# Altium footprint library flatsat_platform_2.PcbLib: 76 footprints (part 3 of 5)
Each footprint in its own frame and in the unit in brackets; x right, y up, seen from the top. Pads: shape width x height; smd on the part's side, far side on the other; paste and mask are expansions set on the pad; w line width, h text height; cw(c..) or ccw(c..) is an arc to the next point about the centre after c.
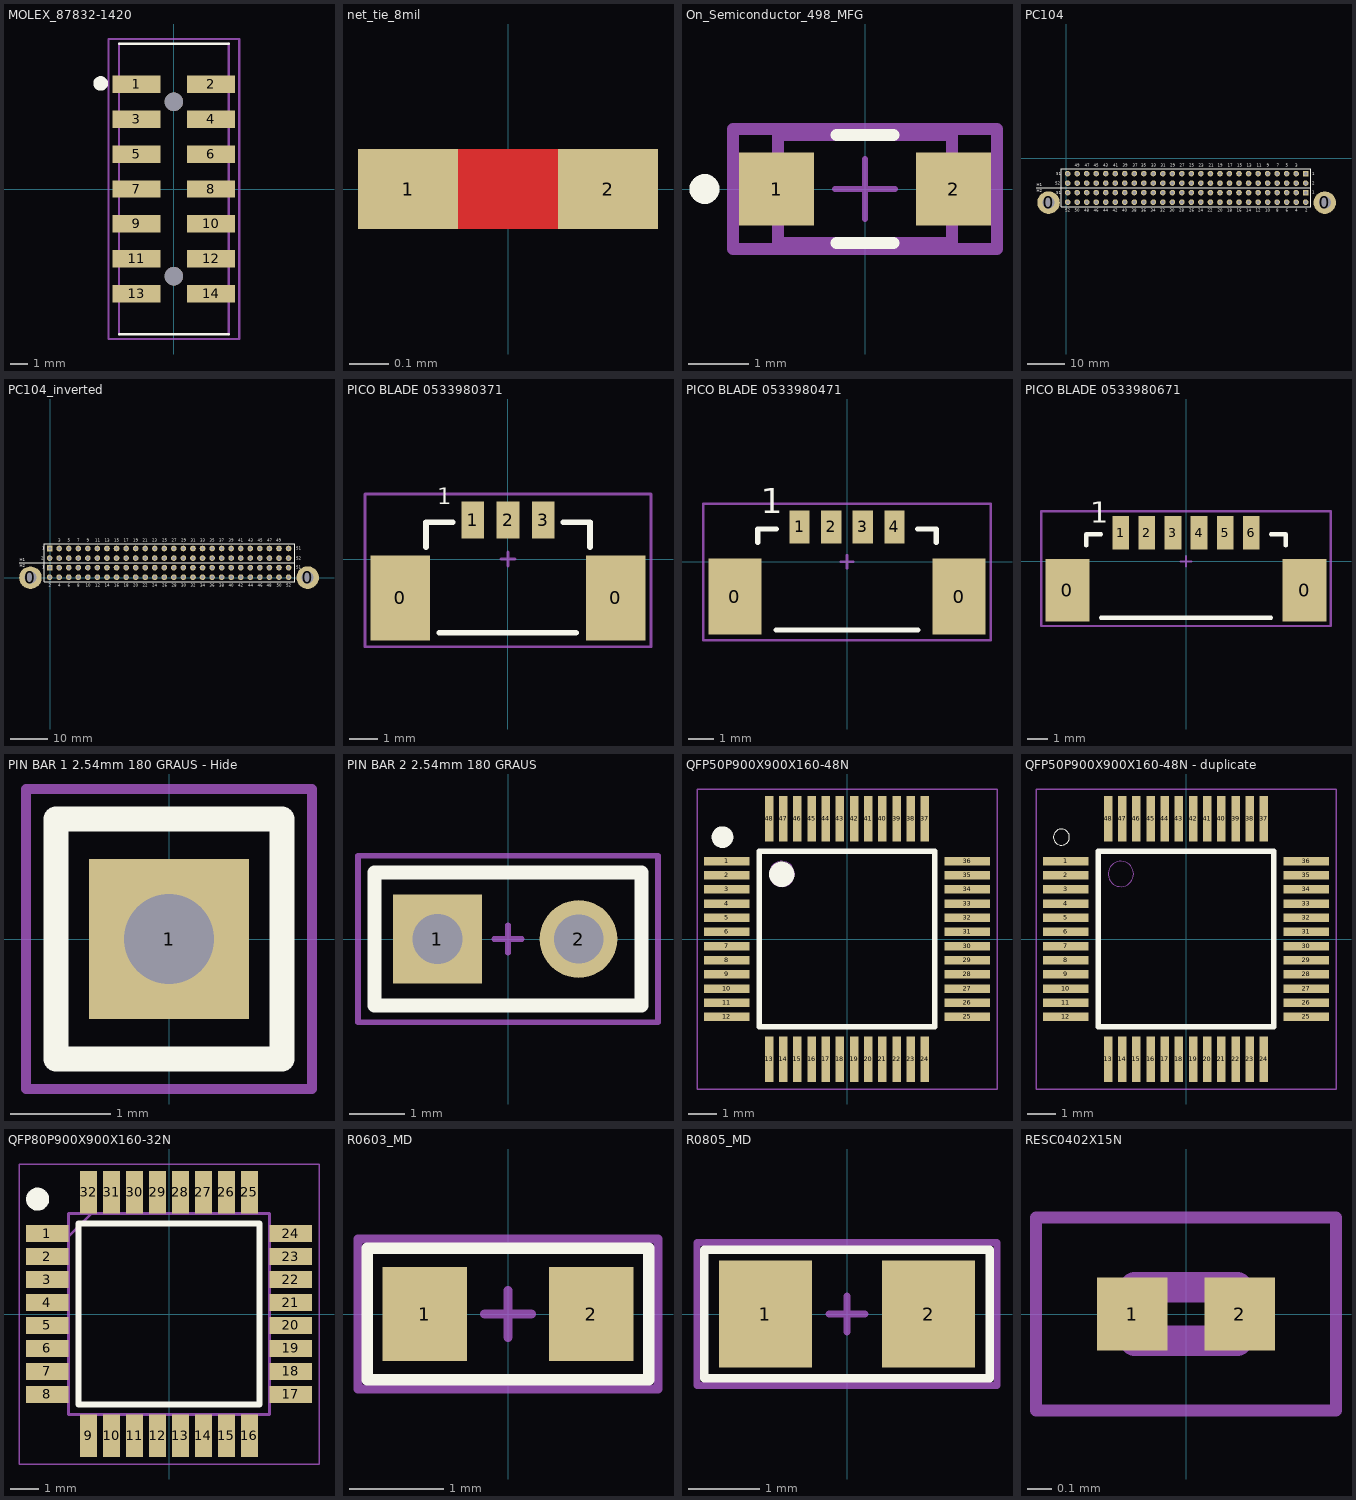
[diagram p2: the footprints below, top view; thin cyan lines are the x and y axes]

## MOLEX_87832-1420 [mm]
pads (16):
  rect 2.75x1 smd: 1(-2.13,6) 2(2.13,6) 3(-2.13,4) 4(2.13,4) 5(-2.13,2) 6(2.13,2) 7(-2.13,0) 8(2.13,0) 9(-2.13,-2) 10(2.13,-2) 11(-2.13,-4) 12(2.13,-4) 13(-2.13,-6) 14(2.13,-6)
  round 1.05 hole 1.05 unplated: ""(0,-5) ""(0,5)
Top Overlay:
  circle w0.61: c-4.2,6.05 r0.11
  lines w0.127: -3.15,-8.325 3.15,-8.325 ; -3.15,8.325 3.15,8.325
Mechanical 13:
  lines w0.127: -3.15,-8.325 -3.15,8.325 ; 3.15,-8.325 3.15,8.325
Mechanical 15:
  lines w0.127: -3.75,-8.6 3.75,-8.6 3.75,8.6 -3.75,8.6 -3.75,-8.6
3D body "87832-1420.stp": height 7.61, standoff -0.99, extent -3.15,-8.268 3.15,8.382

## net_tie_8mil [mil]
pads (2):
  rect 10x8 smd mask-99999: 1(-10,0) 2(10,0)
Top Layer:
  lines w8: -10,0 10,0

## On_Semiconductor_498_MFG [mm]
pads (2):
  rect 1.25x1.22 smd paste+0 mask+0: 1(-1.475,0) 2(1.475,0)
Top Overlay:
  circle w0.25: c-2.675,0 r0.125
  lines w0.2: -0.475,-0.9 0.475,-0.9 ; -0.475,0.9 0.475,0.9
Mechanical 10:
  lines w0.2: -2.2,-1 -2.2,1 2.2,1 2.2,-1 -2.2,-1
  text ".Designator" at 0,-0.001 h1
Mechanical 12:
  lines w0.2: -1.45,-0.9 -1.45,0.9 1.45,0.9 1.45,-0.9 -1.45,-0.9
Mechanical 15:
  lines w0.1: -0.5,0 0.5,0 ; 0,-0.5 0,0.5
  lines w0.2: -2.2,-1 -2.2,1 2.2,1 2.2,-1 -2.2,-1
3D body "Diode_On_Semiconductor_MBR230LSFT1G_eec.STEP": height 0.25, standoff 0, extent -2.2,-1 2.2,1

## PC104 [mm] "Connector; Header; 26x4 Position"
height 3.1
pads (106):
  round 6 hole 3.2: 0(-4.686,-11.809) 0(68.998,-11.823)
  rect 1.5x1.5 hole 0.9: 1(63.906,-4.064) 53(63.906,-9.139)
  round 1.5 hole 0.9: 2(63.906,-6.604) 3(61.366,-4.064) 4(61.366,-6.604) 5(58.826,-4.064) 6(58.826,-6.604) 7(56.286,-4.064) 8(56.286,-6.604) 9(53.746,-4.064) 10(53.746,-6.604) 11(51.206,-4.064) 12(51.206,-6.604) 13(48.666,-4.064) 14(48.666,-6.604) 15(46.126,-4.064) 16(46.126,-6.604) 17(43.561,-4.064) 18(43.586,-6.604) 19(41.046,-4.064) 20(41.046,-6.604) 21(38.506,-4.064) 22(38.506,-6.604) 23(35.966,-4.064) 24(35.966,-6.604) 25(33.426,-4.064) 26(33.426,-6.604) 27(30.886,-4.064) 28(30.886,-6.604) 29(28.346,-4.064) 30(28.346,-6.604) 31(25.806,-4.064) 32(25.806,-6.604) 33(23.266,-4.064) 34(23.266,-6.604) 35(20.726,-4.064) 36(20.726,-6.604) 37(18.186,-4.064) 38(18.186,-6.604) 39(15.646,-4.064) 40(15.646,-6.604) 41(13.106,-4.064) 42(13.106,-6.604) 43(10.566,-4.064) 44(10.566,-6.604) 45(8.026,-4.064) 46(8.026,-6.604) 47(5.486,-4.064) 48(5.486,-6.604) 49(2.946,-4.064) 50(2.946,-6.604) 51(0.406,-4.064) 52(0.406,-6.604) 54(63.906,-11.684) 55(61.366,-9.144) 56(61.366,-11.684) 57(58.826,-9.144) 58(58.826,-11.684) 59(56.286,-9.144) 60(56.286,-11.684) 61(53.746,-9.139) 62(53.746,-11.684) 63(51.206,-9.139) 64(51.206,-11.684) 65(48.666,-9.144) 66(48.666,-11.684) 67(46.126,-9.144) 68(46.126,-11.684) 69(43.561,-9.144) 70(43.586,-11.684) 71(41.046,-9.144) 72(41.046,-11.684) 73(38.506,-9.144) 74(38.506,-11.684) 75(35.966,-9.144) 76(35.966,-11.684) 77(33.426,-9.144) 78(33.426,-11.684) 79(30.886,-9.144) 80(30.886,-11.684) 81(28.346,-9.144) 82(28.346,-11.684) 83(25.806,-9.144) 84(25.806,-11.684) 85(23.266,-9.144) 86(23.266,-11.684) 87(20.726,-9.144) 88(20.726,-11.684) 89(18.186,-9.144) 90(18.186,-11.684) 91(15.646,-9.144) 92(15.646,-11.684) 93(13.106,-9.144) 94(13.106,-11.684) 95(10.566,-9.144) 96(10.566,-11.684) 97(8.026,-9.144) 98(8.026,-11.684) 99(5.486,-9.144) 100(5.486,-11.684) 101(2.946,-9.144) 102(2.946,-11.684) 103(0.406,-9.144) 104(0.406,-11.684)
Top Overlay:
  lines w0.127: -8.034,-7.874 65.151,-7.874
  lines w0.254: -1.27,-12.954 -1.27,-2.794 65.278,-2.794 65.278,-12.954 -1.27,-12.954
  text "H1" at -7.874,-7.493 h0.75
  text "H2" at -7.874,-9.017 h0.75
  text "2" at 65.659,-6.985 h0.75
  text "1" at 65.659,-4.445 h0.75
  text "1" at 65.659,-9.398 h0.75
  text "2" at 63.754,-14.224 h0.75
  text "52" at -0.254,-14.224 h0.75
  text "51" at -2.667,-9.525 h0.75
  text "52" at -2.921,-6.985 h0.75
  text "51" at -2.667,-4.445 h0.75
  text "50" at 2.286,-14.224 h0.75
  text "48" at 4.826,-14.224 h0.75
  text "46" at 7.366,-14.224 h0.75
  text "44" at 9.906,-14.224 h0.75
  text "42" at 12.446,-14.224 h0.75
  text "40" at 14.986,-14.224 h0.75
  text "38" at 17.526,-14.224 h0.75
  text "36" at 20.066,-14.224 h0.75
  text "34" at 22.606,-14.224 h0.75
  text "32" at 25.146,-14.224 h0.75
  text "30" at 27.686,-14.224 h0.75
  text "28" at 30.226,-14.224 h0.75
  text "26" at 32.893,-14.224 h0.75
  text "24" at 35.306,-14.224 h0.75
  text "22" at 37.846,-14.224 h0.75
  text "20" at 40.386,-14.224 h0.75
  text "18" at 42.926,-14.224 h0.75
  text "16" at 45.466,-14.224 h0.75
  text "14" at 48.006,-14.224 h0.75
  text "12" at 50.546,-14.224 h0.75
  text "10" at 53.086,-14.224 h0.75
  text "8" at 56.007,-14.224 h0.75
  text "6" at 58.547,-14.224 h0.75
  text "4" at 61.087,-14.224 h0.75
  text "49" at 2.286,-2.286 h0.75
  text "47" at 4.953,-2.286 h0.75
  text "45" at 7.366,-2.286 h0.75
  text "43" at 9.906,-2.286 h0.75
  text "41" at 12.573,-2.286 h0.75
  text "39" at 15.113,-2.286 h0.75
  text "37" at 17.78,-2.286 h0.75
  text "35" at 20.066,-2.286 h0.75
  text "33" at 22.733,-2.286 h0.75
  text "31" at 25.273,-2.286 h0.75
  text "29" at 27.813,-2.286 h0.75
  text "27" at 30.353,-2.286 h0.75
  text "25" at 32.893,-2.286 h0.75
  text "23" at 35.433,-2.286 h0.75
  text "21" at 38.1,-2.286 h0.75
  text "19" at 40.513,-2.286 h0.75
  text "17" at 43.18,-2.286 h0.75
  text "15" at 45.593,-2.286 h0.75
  text "13" at 48.133,-2.286 h0.75
  text "11" at 50.8,-2.286 h0.75
  text "9" at 53.467,-2.286 h0.75
  text "7" at 56.134,-2.286 h0.75
  text "5" at 58.547,-2.286 h0.75
  text "3" at 61.087,-2.286 h0.75
Mechanical 15:
  text "PC104" at 49.356,-6.934 h1
3D body "SSW-126-01-G-D.stp": height 8.52, standoff -2.63, extent -1.27,-12.827 65.278,-7.874
3D body "SSW-126-01-G-D.stp": height 8.52, standoff -2.63, extent -1.27,-7.874 65.278,-2.921

## PC104_inverted [mm] "Connector; Header; 26x4 Position"
height 3.1
pads (106):
  round 6 hole 3.2: 0(-5.244,-0.012) 0(68.44,0.002)
  rect 1.5x1.5 hole 0.9: 1(-0.152,7.747) 53(-0.152,2.672)
  round 1.5 hole 0.9: 2(-0.152,5.207) 3(2.388,7.747) 4(2.388,5.207) 5(4.928,7.747) 6(4.928,5.207) 7(7.468,7.747) 8(7.468,5.207) 9(10.008,7.747) 10(10.008,5.207) 11(12.548,7.747) 12(12.548,5.207) 13(15.088,7.747) 14(15.088,5.207) 15(17.628,7.747) 16(17.628,5.207) 17(20.193,7.747) 18(20.168,5.207) 19(22.708,7.747) 20(22.708,5.207) 21(25.248,7.747) 22(25.248,5.207) 23(27.788,7.747) 24(27.788,5.207) 25(30.328,7.747) 26(30.328,5.207) 27(32.868,7.747) 28(32.868,5.207) 29(35.408,7.747) 30(35.408,5.207) 31(37.948,7.747) 32(37.948,5.207) 33(40.488,7.747) 34(40.488,5.207) 35(43.028,7.747) 36(43.028,5.207) 37(45.568,7.747) 38(45.568,5.207) 39(48.108,7.747) 40(48.108,5.207) 41(50.648,7.747) 42(50.648,5.207) 43(53.188,7.747) 44(53.188,5.207) 45(55.728,7.747) 46(55.728,5.207) 47(58.268,7.747) 48(58.268,5.207) 49(60.808,7.747) 50(60.808,5.207) 51(63.348,7.747) 52(63.348,5.207) 54(-0.152,0.127) 55(2.388,2.667) 56(2.388,0.127) 57(4.928,2.667) 58(4.928,0.127) 59(7.468,2.667) 60(7.468,0.127) 61(10.008,2.672) 62(10.008,0.127) 63(12.548,2.672) 64(12.548,0.127) 65(15.088,2.667) 66(15.088,0.127) 67(17.628,2.667) 68(17.628,0.127) 69(20.193,2.667) 70(20.168,0.127) 71(22.708,2.667) 72(22.708,0.127) 73(25.248,2.667) 74(25.248,0.127) 75(27.788,2.667) 76(27.788,0.127) 77(30.328,2.667) 78(30.328,0.127) 79(32.868,2.667) 80(32.868,0.127) 81(35.408,2.667) 82(35.408,0.127) 83(37.948,2.667) 84(37.948,0.127) 85(40.488,2.667) 86(40.488,0.127) 87(43.028,2.667) 88(43.028,0.127) 89(45.568,2.667) 90(45.568,0.127) 91(48.108,2.667) 92(48.108,0.127) 93(50.648,2.667) 94(50.648,0.127) 95(53.188,2.667) 96(53.188,0.127) 97(55.728,2.667) 98(55.728,0.127) 99(58.268,2.667) 100(58.268,0.127) 101(60.808,2.667) 102(60.808,0.127) 103(63.348,2.667) 104(63.348,0.127)
Top Overlay:
  lines w0.127: -8.288,3.937 64.897,3.937
  lines w0.254: -1.524,-1.143 65.024,-1.143 65.024,9.017 -1.524,9.017 -1.524,-1.143
  text "H2" at -8.128,2.794 h0.75
  text "H1" at -8.128,4.318 h0.75
  text "3" at 2.159,9.525 h0.75
  text "5" at 4.699,9.525 h0.75
  text "7" at 7.239,9.525 h0.75
  text "9" at 9.779,9.525 h0.75
  text "11" at 11.938,9.525 h0.75
  text "13" at 14.478,9.525 h0.75
  text "15" at 17.018,9.525 h0.75
  text "17" at 19.558,9.525 h0.75
  text "19" at 22.098,9.525 h0.75
  text "21" at 24.638,9.525 h0.75
  text "23" at 27.178,9.525 h0.75
  text "25" at 29.718,9.525 h0.75
  text "27" at 32.258,9.525 h0.75
  text "29" at 34.798,9.525 h0.75
  text "31" at 37.338,9.525 h0.75
  text "33" at 39.878,9.525 h0.75
  text "35" at 42.418,9.525 h0.75
  text "37" at 44.958,9.525 h0.75
  text "39" at 47.498,9.525 h0.75
  text "41" at 50.038,9.525 h0.75
  text "43" at 52.578,9.525 h0.75
  text "45" at 55.118,9.525 h0.75
  text "47" at 57.658,9.525 h0.75
  text "49" at 60.071,9.525 h0.75
  text "4" at 2.159,-2.413 h0.75
  text "6" at 4.699,-2.413 h0.75
  text "8" at 7.239,-2.413 h0.75
  text "10" at 9.398,-2.413 h0.75
  text "12" at 11.938,-2.413 h0.75
  text "14" at 14.478,-2.413 h0.75
  text "16" at 17.018,-2.413 h0.75
  text "18" at 19.558,-2.413 h0.75
  text "20" at 22.098,-2.413 h0.75
  text "22" at 24.638,-2.413 h0.75
  text "24" at 27.178,-2.413 h0.75
  text "26" at 29.718,-2.413 h0.75
  text "28" at 32.258,-2.413 h0.75
  text "30" at 34.798,-2.413 h0.75
  text "32" at 37.338,-2.413 h0.75
  text "34" at 39.878,-2.413 h0.75
  text "36" at 42.418,-2.413 h0.75
  text "38" at 44.958,-2.413 h0.75
  text "40" at 47.498,-2.413 h0.75
  text "42" at 50.038,-2.413 h0.75
  text "44" at 52.578,-2.413 h0.75
  text "46" at 55.118,-2.413 h0.75
  text "48" at 57.531,-2.413 h0.75
  text "50" at 60.198,-2.413 h0.75
  text "51" at 65.405,7.366 h0.75
  text "52" at 65.405,4.826 h0.75
  text "51" at 65.405,2.413 h0.75
  text "52" at 62.738,-2.413 h0.75
  text "2" at -0.381,-2.413 h0.75
  text "1" at -2.159,2.413 h0.75
  text "1" at -2.159,7.366 h0.75
  text "2" at -2.413,4.826 h0.75
Mechanical 15:
  text "PC104" at 14.398,4.877 h1
3D body "TSW-126-07-G-D.x_t": height 8.39, standoff -2.53, extent -1.27,3.937 64.77,9.017
3D body "TSW-126-07-G-D.x_t": height 8.39, standoff -2.53, extent -1.27,-1.143 64.77,3.937

## PICO BLADE 0533980371 [mm]
height 4.7
pads (5):
  rect 2.1x3 smd: 0(-3.8,-1.375) 0(3.8,-1.375)
  rect 0.8x1.3 smd: 1(-1.25,1.375) 2(0,1.375) 3(1.25,1.375)
Top Overlay:
  lines w0.2: -2.9,0.425 -2.9,1.3 -1.95,1.3 ; -2.425,-2.6 2.4,-2.6 ; 1.95,1.3 2.9,1.3 2.9,0.425
  text "1" at -2.5,1.75 h1
Top Assembly:
  lines w0.1: -0.25,0 0.25,0 ; 0,-0.25 0,0.25 ; -5.05,-3.1 5.05,-3.1 5.05,2.3 -5.05,2.3 -5.05,-3.1
  text "'.Designator'" at -4.25,-2.3 h1.2
3D body "User Library-molex 53398 white (1).step": height 4.7, standoff 0, extent -4.45,-2.5 4.45,1.7

## PICO BLADE 0533980471 [mm]
height 4.7
pads (6):
  rect 2.1x3 smd: 0(-4.425,-1.375) 0(4.425,-1.375)
  rect 0.8x1.3 smd: 1(-1.875,1.375) 2(-0.625,1.375) 3(0.625,1.375) 4(1.875,1.375)
Top Overlay:
  lines w0.2: -3.525,0.762 -3.525,1.3 -2.794,1.3 ; -2.794,-2.7 2.794,-2.7 ; 2.794,1.3 3.525,1.3 3.525,0.762
  text "1" at -3.4,1.925 h1
Top Assembly:
  lines w0.1: -0.25,0 0.25,0 ; 0,-0.25 0,0.25 ; -5.675,-3.1 5.675,-3.1 5.675,2.3 -5.675,2.3 -5.675,-3.1
  text "'.Designator'" at -2.5,0.75 h1.2
3D body "User Library-molex 53398 white (2).step": height 4.7, standoff 0, extent -5.075,-2.5 5.075,1.7
3D body "510210400_4posHousingPicoblade.stp": height 5.88, standoff 1.92, extent -3.375,-2.351 3.375,0.851

## PICO BLADE 0533980671 [mm] "CONN HEADER SMD 6POS 1.25MM"
height 4.7
pads (8):
  rect 2.1x3 smd: 0(-5.675,-1.375) 0(5.675,-1.375)
  rect 0.8x1.6 smd: 1(-3.125,1.375) 2(-1.875,1.375) 3(-0.625,1.375) 4(0.625,1.375) 5(1.875,1.375) 6(3.125,1.375)
Top Overlay:
  lines w0.2: -4.775,0.762 -4.775,1.3 -4.064,1.3 ; -4.064,-2.7 4.064,-2.7 ; 4.064,1.3 4.775,1.3 4.775,0.762
  text "1" at -4.575,1.85 h1
Top Assembly:
  lines w0.1: -0.25,0 0.25,0 ; 0,-0.25 0,0.25 ; -6.925,-3.1 6.925,-3.1 6.925,2.4 -6.925,2.4 -6.925,-3.1
  text "'.Designator'" at -3.5,0.75 h1.2
3D body "User Library-molex 53398 white (4).step": height 4.7, standoff 0, extent -6.325,-2.5 6.325,1.7
3D body "510210600_6posHousingPicoblade.stp": height 5.87, standoff 1.92, extent -4.625,-2.35 4.625,0.85

## PIN BAR 1 2.54mm 180 GRAUS - Hide [mm] "HEADER 1 2.54mm 180 GRAUS"
height 8.64
pads (1):
  rect 1.6x1.6 hole 0.9: 1(0,0)
Top Overlay:
  lines w0.254: -1.13,-1.2 -1.13,1.2 1.13,1.2 1.13,-1.2 -1.13,-1.2
Mechanical 15:
  lines w0.1: -0.25,0 0.25,0 ; 0,-0.25 0,0.25 ; -1.43,-1.5 -1.43,1.5 1.43,1.5 1.43,-1.5 -1.43,-1.5
3D body "User Library-Header_Male_1Pin.STEP": height 8.54, standoff -3, extent -1.27,-1.245 1.27,1.245

## PIN BAR 2 2.54mm 180 GRAUS [mm] "HEADER 2 2.54mm 180 GRAUS"
height 8.64
pads (2):
  rect 1.6x1.6 hole 0.9: 1(-1.27,0)
  round 1.398 hole 0.89: 2(1.27,0)
Top Overlay:
  lines w0.254: -2.4,-1.2 -2.4,1.2 2.4,1.2 2.4,-1.2 -2.4,-1.2
Mechanical 15:
  lines w0.1: -0.25,0 0.25,0 ; 0,-0.25 0,0.25 ; -2.7,-1.5 -2.7,1.5 2.7,1.5 2.7,-1.5 -2.7,-1.5
3D body "JUMPER 2 VIAS.STEP": height 8.22, standoff -3.28, extent -2.54,-1.27 2.54,1.27

## QFP50P900X900X160-48N [mm]
pads (48):
  rect 1.6x0.3 smd: 1(-4.25,2.75) 2(-4.25,2.25) 3(-4.25,1.75) 4(-4.25,1.25) 5(-4.25,0.75) 6(-4.25,0.25) 7(-4.25,-0.25) 8(-4.25,-0.75) 9(-4.25,-1.25) 10(-4.25,-1.75) 11(-4.25,-2.25) 12(-4.25,-2.75) 25(4.25,-2.75) 26(4.25,-2.25) 27(4.25,-1.75) 28(4.25,-1.25) 29(4.25,-0.75) 30(4.25,-0.25) 31(4.25,0.25) 32(4.25,0.75) 33(4.25,1.25) 34(4.25,1.75) 35(4.25,2.25) 36(4.25,2.75)
  rect 0.3x1.6 smd: 13(-2.75,-4.25) 14(-2.25,-4.25) 15(-1.75,-4.25) 16(-1.25,-4.25) 17(-0.75,-4.25) 18(-0.25,-4.25) 19(0.25,-4.25) 20(0.75,-4.25) 21(1.25,-4.25) 22(1.75,-4.25) 23(2.25,-4.25) 24(2.75,-4.25) 37(2.75,4.25) 38(2.25,4.25) 39(1.75,4.25) 40(1.25,4.25) 41(0.75,4.25) 42(0.25,4.25) 43(-0.25,4.25) 44(-0.75,4.25) 45(-1.25,4.25) 46(-1.75,4.25) 47(-2.25,4.25) 48(-2.75,4.25)
Top Overlay:
  circle w0.508: c-4.4,3.6 r0.127
  lines w0.2: -3.1,-3.1 3.1,-3.1 3.1,3.1 -3.1,3.1 -3.1,-3.1
  lines w0.635: -2.186,2.331 ccw(c-2.305,2.286) -2.178,2.286
Mechanical 13:
  circle w0: c-2.3,2.3 r0.447
Mechanical 15:
  lines w0.05: -5.3,-5.3 5.3,-5.3 5.3,5.3 -5.3,5.3 -5.3,-5.3
3D body "LQFP-48_LX_LIT-L.step": height 1.6, standoff 0, extent -4.5,-4.5 4.5,4.5

## QFP50P900X900X160-48N - duplicate [mm]
pads (48):
  rect 1.6x0.3 smd: 1(-4.25,2.75) 2(-4.25,2.25) 3(-4.25,1.75) 4(-4.25,1.25) 5(-4.25,0.75) 6(-4.25,0.25) 7(-4.25,-0.25) 8(-4.25,-0.75) 9(-4.25,-1.25) 10(-4.25,-1.75) 11(-4.25,-2.25) 12(-4.25,-2.75) 25(4.25,-2.75) 26(4.25,-2.25) 27(4.25,-1.75) 28(4.25,-1.25) 29(4.25,-0.75) 30(4.25,-0.25) 31(4.25,0.25) 32(4.25,0.75) 33(4.25,1.25) 34(4.25,1.75) 35(4.25,2.25) 36(4.25,2.75)
  rect 0.3x1.6 smd: 13(-2.75,-4.25) 14(-2.25,-4.25) 15(-1.75,-4.25) 16(-1.25,-4.25) 17(-0.75,-4.25) 18(-0.25,-4.25) 19(0.25,-4.25) 20(0.75,-4.25) 21(1.25,-4.25) 22(1.75,-4.25) 23(2.25,-4.25) 24(2.75,-4.25) 37(2.75,4.25) 38(2.25,4.25) 39(1.75,4.25) 40(1.25,4.25) 41(0.75,4.25) 42(0.25,4.25) 43(-0.25,4.25) 44(-0.75,4.25) 45(-1.25,4.25) 46(-1.75,4.25) 47(-2.25,4.25) 48(-2.75,4.25)
Top Overlay:
  circle w0: c-4.4,3.6 r0.283
  lines w0.2: -3.1,-3.1 -3.1,3.1 3.1,3.1 3.1,-3.1 -3.1,-3.1
Mechanical 13:
  circle w0: c-2.3,2.3 r0.447
Mechanical 15:
  lines w0.05: -5.3,-5.3 -5.3,5.3 5.3,5.3 5.3,-5.3 -5.3,-5.3
3D body "MSP430FR2355TPT.STEP": height 1.6, standoff 0, extent -4.5,-4.5 4.5,4.5

## QFP80P900X900X160-32N [mm]
pads (32):
  rect 1.475x0.6 smd: 1(-4.238,2.8) 2(-4.238,2) 3(-4.238,1.2) 4(-4.238,0.4) 5(-4.238,-0.4) 6(-4.238,-1.2) 7(-4.238,-2) 8(-4.238,-2.8) 17(4.238,-2.8) 18(4.238,-2) 19(4.238,-1.2) 20(4.238,-0.4) 21(4.238,0.4) 22(4.238,1.2) 23(4.238,2) 24(4.238,2.8)
  rect 0.6x1.475 smd: 9(-2.8,-4.238) 10(-2,-4.238) 11(-1.2,-4.238) 12(-0.4,-4.238) 13(0.4,-4.238) 14(1.2,-4.238) 15(2,-4.238) 16(2.8,-4.238) 25(2.8,4.238) 26(2,4.238) 27(1.2,4.238) 28(0.4,4.238) 29(-0.4,4.238) 30(-1.2,4.238) 31(-2,4.238) 32(-2.8,4.238)
Top Overlay:
  circle w0.4: c-4.575,4 r0.2
  lines w0.2: -3.15,-3.15 -3.15,3.15 3.15,3.15 3.15,-3.15 -3.15,-3.15
Mechanical 13:
  lines w0.1: -3.5,2.7 -2.7,3.5 ; -3.5,-3.5 -3.5,3.5 3.5,3.5 3.5,-3.5 -3.5,-3.5
Mechanical 15:
  lines w0.05: -5.225,-5.225 -5.225,5.225 5.225,5.225 5.225,-5.225 -5.225,-5.225
3D body "STM32C031K6T6.stp": height 1.6, standoff 0, extent -4.5,-4.5 4.5,4.5

## R0603_MD [mm] "Chip Resistor, Body 1.6x0.8mm, IPC Medium Density"
height 0.85
pads (2):
  rect 0.9x1 smd: 1(-0.889,0) 2(0.889,0)
Top Overlay:
  lines w0.12: -1.5,-0.7 -1.5,0.7 1.5,0.7 1.5,-0.7 -1.5,-0.7
Top Assembly:
  lines w0.1: -0.25,0 0.25,0 ; 0,-0.25 0,0.25 ; -1.6,-0.8 -1.6,0.8 1.6,0.8 1.6,-0.8 -1.6,-0.8
  text "'.Designator'" at -1.4,-0.6 h0.8
3D body "Flat Chip Resistor 0603(1608M).step": height 0.37, standoff 0, extent -0.8,-0.4 0.8,0.402

## R0805_MD [mm] "Chip Resistor, Body 2.0x1.3mm, IPC Medium Density"
height 1.1
pads (2):
  rect 1.3x1.5 smd: 1(-1.143,0) 2(1.143,0)
Top Overlay:
  lines w0.12: -2,-0.9 2,-0.9 2,0.9 -2,0.9 -2,-0.9
Top Assembly:
  lines w0.1: -0.25,0 0.25,0 ; 0,-0.25 0,0.25 ; -2.1,-1 -2.1,1 2.1,1 2.1,-1 -2.1,-1
  text "'.Designator'" at -1.75,-0.75 h0.8
3D body "Flat Chip Resistor 0805(2012M).step": height 0.47, standoff 0, extent -1,-0.625 1,0.627

## RESC0402X15N [mm]
pads (2):
  rect 0.29x0.3 smd: 1(-0.222,0) 2(0.222,0)
Mechanical 13:
  lines w0.127: -0.21,-0.11 -0.21,0.11 0.21,0.11 0.21,-0.11 -0.21,-0.11
Mechanical 15:
  lines w0.05: -0.619,-0.399 -0.619,0.399 0.619,0.399 0.619,-0.399 -0.619,-0.399
3D body "ERJ-XGNF1203Y.STEP": height 0.16, standoff 0.01, extent -0.2,-0.1 0.2,0.1